# EAGLE library part PIC12F635 (library LN-microchip)
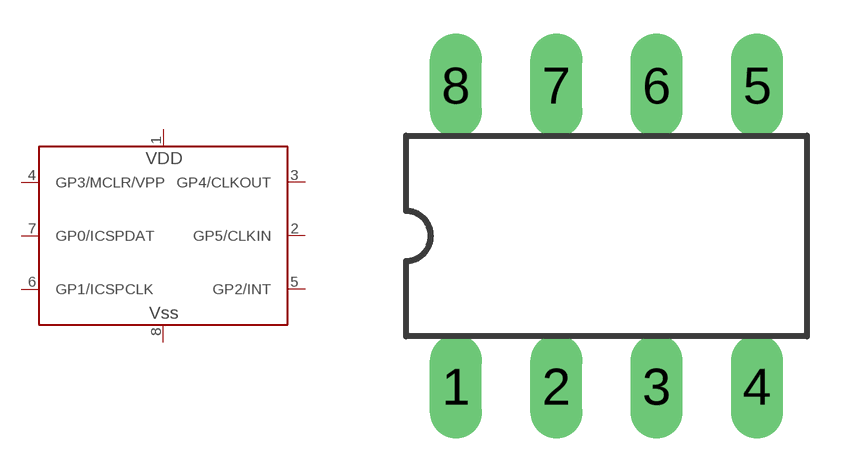
[diagram p1: symbol with the pads of DIL8; footprint DIL8]

Designator prefix -

## PIC12F635  [DIL8]
1  VDD  pwr
2  GP5/CLKIN
3  GP4/CLKOUT
4  GP3/MCLR/VPP
5  GP2/INT
6  GP1/ICSPCLK
7  GP0/ICSPDAT
8  VSS  pwr

## Footprint DIL8 (pad centres in mm)
Dual In Line package type P
drill 0.813 long: 1 -3.81,-3.81; 2 -1.27,-3.81; 3 1.27,-3.81; 4 3.81,-3.81; 5 3.81,3.81; 6 1.27,3.81; 7 -1.27,3.81; 8 -3.81,3.81